# EAGLE library part MAX6817EUT+T (library NASA_LIB)
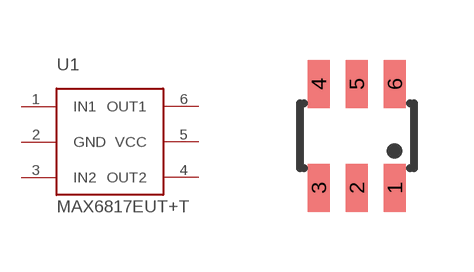
[diagram p32: symbol with the pads of SOT23-6; footprint SOT23-6]

Designator prefix U1

## MAX6817EUT+T  [SOT23-6]
1  IN1
2  GND
3  IN2
4  OUT2
5  VCC
6  OUT1

## Footprint SOT23-6 (pad centres in mm)
smd 0.55 x 1.2: 1 0.95,-1.3; 2 0,-1.3; 3 -0.95,-1.3; 4 -0.95,1.3; 5 0,1.3; 6 0.95,1.3